# Altium footprint library RESC1508X50L30L.PcbLib: 1 footprints
Each footprint in its own frame and in the unit in brackets; x right, y up, seen from the top. Pads: shape width x height; smd on the part's side, far side on the other; paste and mask are expansions set on the pad; w line width, h text height; cw(c..) or ccw(c..) is an arc to the next point about the centre after c.
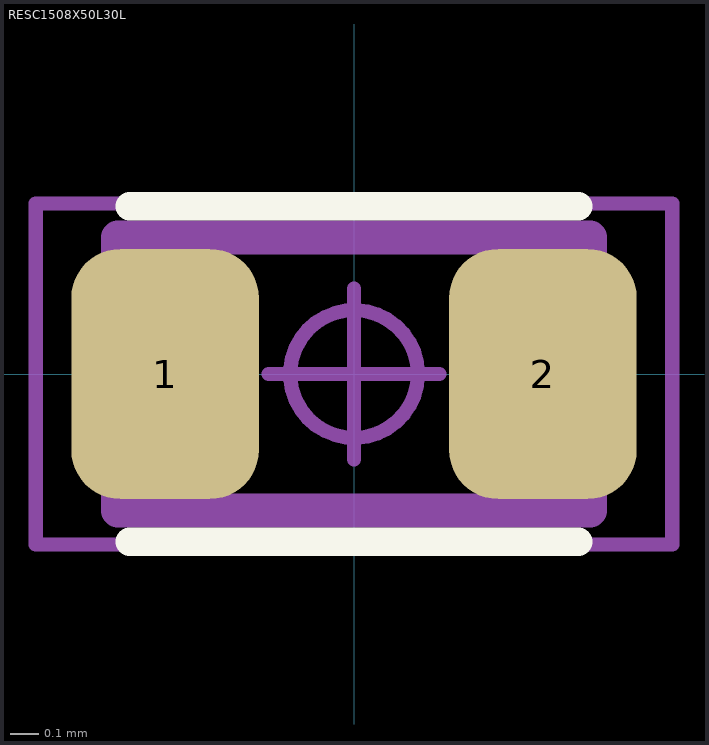
[diagram p0: the footprint, top view; thin cyan lines are the x and y axes]

## RESC1508X50L30L [mm] "Resistor, Chip; 1.575 mm L X 0.85 mm W X 0.50 mm H body"
height 0.5
pads (2):
  rrect52% 0.66x0.88 smd: 1(-0.665,0) 2(0.665,0)
Top Overlay:
  lines w0.1: -0.79,-0.59 0.79,-0.59 ; -0.79,0.59 0.79,0.59
Mechanical 11:
  lines w0.12: -0.83,-0.48 0.83,-0.48 0.83,0.48 -0.83,0.48 -0.83,-0.48
Mechanical 15:
  circle w0.05: c0,0 r0.225
  lines w0.05: -0.3,0 0.3,0 ; 0,-0.3 0,0.3 ; -1.12,-0.6 1.12,-0.6 1.12,0.6 -1.12,0.6 -1.12,-0.6
3D body: height 0.5, standoff 0.05, extent -0.83,-0.48 0.83,0.48